# Altium footprint library CustomParts.PcbLib: 1 footprints
Each footprint in its own frame and in the unit in brackets; x right, y up, seen from the top. Pads: shape width x height; smd on the part's side, far side on the other; paste and mask are expansions set on the pad; w line width, h text height; cw(c..) or ccw(c..) is an arc to the next point about the centre after c.
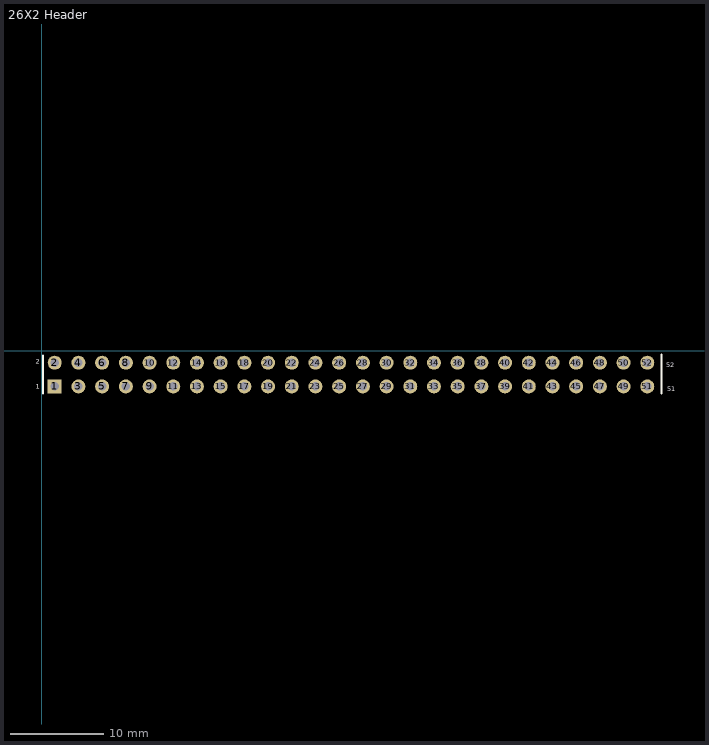
[diagram p0: the footprint, top view; thin cyan lines are the x and y axes]

## 26X2 Header [mm]
pads (52):
  rect 1.5x1.5 hole 0.9: 1(1.393,-3.81)
  round 1.5 hole 0.9: 2(1.393,-1.27) 3(3.933,-3.81) 4(3.933,-1.27) 5(6.473,-3.81) 6(6.473,-1.27) 7(9.013,-3.81) 8(9.013,-1.27) 9(11.553,-3.81) 10(11.553,-1.27) 11(14.093,-3.81) 12(14.093,-1.27) 13(16.633,-3.81) 14(16.633,-1.27) 15(19.173,-3.81) 16(19.173,-1.27) 17(21.713,-3.81) 18(21.713,-1.27) 19(24.253,-3.81) 20(24.253,-1.27) 21(26.793,-3.81) 22(26.793,-1.27) 23(29.333,-3.81) 24(29.333,-1.27) 25(31.873,-3.81) 26(31.873,-1.27) 27(34.413,-3.81) 28(34.413,-1.27) 29(36.953,-3.81) 30(36.953,-1.27) 31(39.493,-3.81) 32(39.493,-1.27) 33(42.033,-3.81) 34(42.033,-1.27) 35(44.573,-3.81) 36(44.573,-1.27) 37(47.113,-3.81) 38(47.113,-1.27) 39(49.653,-3.81) 40(49.653,-1.27) 41(52.193,-3.81) 42(52.193,-1.27) 43(54.733,-3.81) 44(54.733,-1.27) 45(57.273,-3.81) 46(57.273,-1.27) 47(59.813,-3.81) 48(59.813,-1.27) 49(62.353,-3.81) 50(62.353,-1.27) 51(64.893,-3.81) 52(64.893,-1.27)
Top Overlay:
  lines w0.2: 0.127,-4.572 0.127,-0.508 ; 66.421,-4.572 66.421,-0.381
  text "52" at 66.925,-1.778 h0.51
  text "51" at 67.052,-4.318 h0.51
  text "1" at -0.635,-4.064 h0.51
  text "2" at -0.635,-1.397 h0.51
3D body: height 8.5, standoff -3.2, extent 0,-5 66.29,0